# Altium footprint library Inductors.PcbLib: 4 footprints
Each footprint in its own frame and in the unit in brackets; x right, y up, seen from the top. Pads: shape width x height; smd on the part's side, far side on the other; paste and mask are expansions set on the pad; w line width, h text height; cw(c..) or ccw(c..) is an arc to the next point about the centre after c.
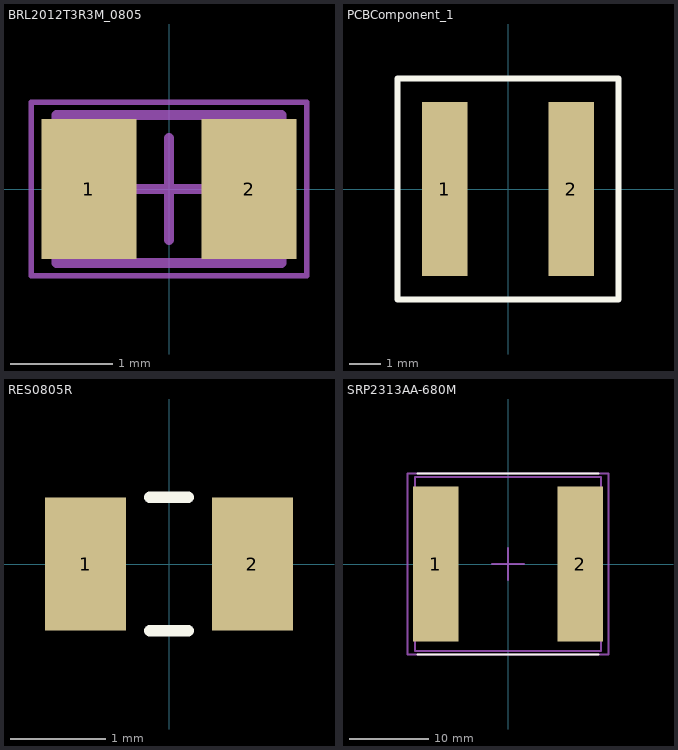
[diagram p0: the footprints below, top view; thin cyan lines are the x and y axes]

## BRL2012T3R3M_0805 [mm] "Chip Inductor, 2-Leads, Body 2.00x1.25mm, IPC High Density"
height 1
pads (2):
  rect 0.93x1.37 smd: 1(-0.785,0) 2(0.785,0)
Mechanical 13:
  lines w0.1: -1.1,-0.725 1.1,-0.725 1.1,0.725 -1.1,0.725 -1.1,-0.725
Mechanical 15:
  lines w0.05: -1.35,-0.85 1.35,-0.85 1.35,0.85 -1.35,0.85 -1.35,-0.85
  lines w0.1: -0.5,0 0.5,0 ; 0,-0.5 0,0.5
3D body "BRL2012T3R3M_0805.step": height 1, standoff 0, extent -1.1,-0.725 1.1,0.725

## PCBComponent_1 [mm]
pads (2):
  rect 1.45x5.5 smd: 1(-2,0) 2(2,0)
Top Overlay:
  lines w0.2: -3.5,-3.5 -3.5,3.5 3.5,3.5 3.5,-3.5 -3.5,-3.5
3D body "STEP-WE-XHMI-6060-rev1.stp": height 5.7, standoff -0.1, extent -3.225,-3.325 3.225,3.325

## RES0805R [mm] "resistor 0805 reflow soldering"
pads (2):
  rect 0.85x1.4 smd mask+0.05: 1(-0.875,0) 2(0.875,0)
Top Overlay:
  lines w0.12: -0.2,-0.7 0.2,-0.7 ; -0.2,0.7 0.2,0.7
3D body "RES0805.stp": height 0.5, standoff 0, extent -1,-0.625 1,0.625

## SRP2313AA-680M [mm] "FIXED IND 68UH 12A 29.5 mOhm SMD"
height 13
pads (2):
  rect 5.75x19.6 smd: 1(-9.125,0) 2(9.125,0)
Top Overlay:
  lines w0.254: -11.43,-11.43 11.43,-11.43 ; -11.43,11.43 11.43,11.43
Mechanical 13:
  lines w0.254: -11.75,-10.998 11.75,-10.998 11.75,11.002 -11.75,11.002 -11.75,-10.998
Mechanical 15:
  lines w0.254: -2,0 2,0 ; 0,-2 0,2 ; -12.7,-11.43 -12.7,11.43 12.7,11.43 12.7,-11.43 -12.7,-11.43
3D body "SRP2313AA.stp": height 12.6, standoff 0, extent -11.75,-10.998 11.75,11.002